# EAGLE library part TEXAS_TXS0101DBVR (library shield)
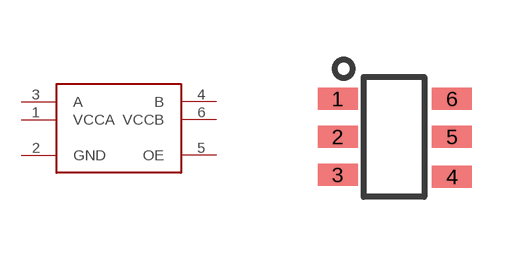
[diagram p5: symbol with the pads of TEXAS_SOT-23-6; footprint TEXAS_SOT-23-6]

Designator prefix -

## TEXAS_TXS0101DBVR  [TEXAS_SOT-23-6]
1  VCCA
2  GND
3  A
4  B
5  OE
6  VCCB

## Footprint TEXAS_SOT-23-6 (pad centres in mm)
smd 1 x 0.55: 1 -1.35,0.95; 2 -1.35,0; 3 -1.35,-0.95; 4 1.512,-1; 5 1.512,0; 6 1.512,0.95